# Altium footprint library SLG59M1495VTR.PcbLib: 1 footprints
Each footprint in its own frame and in the unit in brackets; x right, y up, seen from the top. Pads: shape width x height; smd on the part's side, far side on the other; paste and mask are expansions set on the pad; w line width, h text height; cw(c..) or ccw(c..) is an arc to the next point about the centre after c.
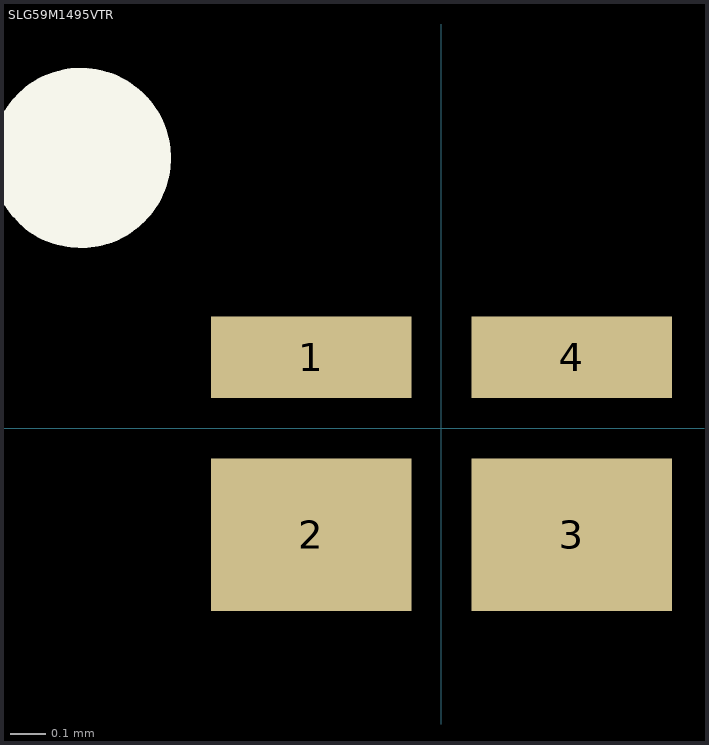
[diagram p0: the footprint, top view; thin cyan lines are the x and y axes]

## SLG59M1495VTR [mm]
pads (4):
  rect 0.565x0.23 smd: 1(-0.367,0.2) 4(0.367,0.2)
  rect 0.565x0.43 smd: 2(-0.367,-0.3) 3(0.367,-0.3)
Top Overlay:
  circle w0.254: c-1.016,0.762 r0.127
3D body: height 0.5, standoff 0, extent -0.5,-0.5 0.5,0.5